# Altium schematic symbol library 2020-01-08_21-27-24.SchLib: 2 symbols
Pins are listed as number, name and electrical type; pins without a type are passive.

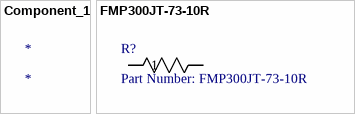
[diagram p0: symbols Component_1 to FMP300JT-73-10R]

## Component_1
designator *

## FMP300JT-73-10R
designator R?, comment Part Number: FMP300JT-73-10R
No Description Available; Vendor: Yageo; Built_By: EMA_UL_Team; Manufacturer_Part_Number: FMP300JT-73-10R; Copyright: Copyright (C) 2018 Accelerated Designs. All rights reserved; RefDes: RefDes; Type: DEV; Value: Value
footprint YAG_FMP300
pins: 1, 2